# EAGLE library part PICO-BLADE8 (library Hermes_lib)
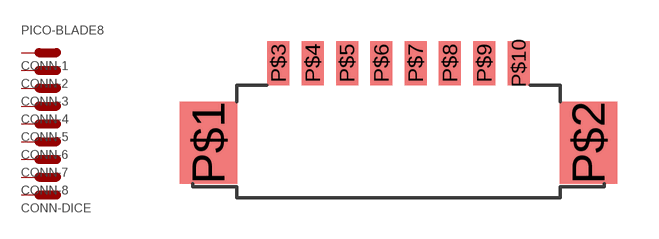
[diagram p4: symbol with the pads of PICO-BLADE8; footprint PICO-BLADE8]

Designator prefix CONN; gates -1=PIN-NAME -2=PIN -3=PIN -4=PIN -5=PIN -6=PIN -7=PIN -8=PIN -DICE=PIN

## PICO-BLADE8  [PICO-BLADE8]
P$1  -DICE:P$1
P$2  -DICE:P$1
P$3  -1:P$1  pas
P$4  -2:P$1
P$5  -3:P$1
P$6  -4:P$1
P$7  -5:P$1
P$8  -6:P$1
P$9  -7:P$1
P$10  -8:P$1

## Footprint PICO-BLADE8 (pad centres in mm)
smd 2.1 x 3: P$1 -6.925,0; P$2 6.925,0
smd 0.8 x 1.6: P$3 -4.375,2.9; P$4 -3.125,2.9; P$5 -1.875,2.9; P$6 -0.625,2.9; P$7 0.625,2.9; P$8 1.875,2.9; P$9 3.125,2.9; P$10 4.375,2.9